# Altium footprint library Connor Winfield.PcbLib: 1 footprints
Each footprint in its own frame and in the unit in brackets; x right, y up, seen from the top. Pads: shape width x height; smd on the part's side, far side on the other; paste and mask are expansions set on the pad; w line width, h text height; cw(c..) or ccw(c..) is an arc to the next point about the centre after c.
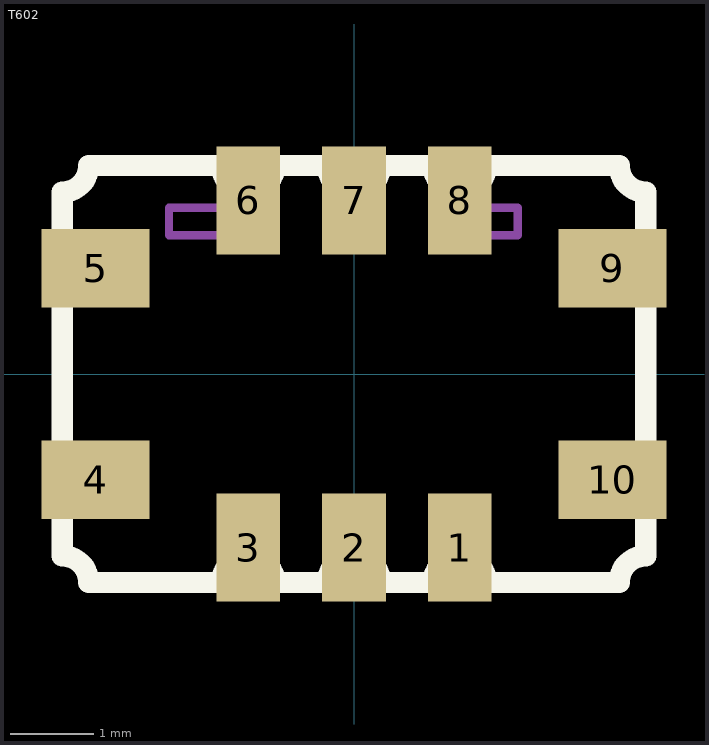
[diagram p0: the footprint, top view; thin cyan lines are the x and y axes]

## T602 [mil]
height 94.49
pads (10):
  rect 30x51 smd: 1(50,-82) 2(0,-82) 3(-50,-82) 6(-50,82) 7(0,82) 8(50,82)
  rect 51x37 smd: 4(-122,-50) 5(-122,50) 9(122,50) 10(122,-50)
Top Overlay:
  lines w10: -137.8,-85.93 cw(c-137.8,-98.43) -125.3,-98.43 -62.5,-98.43 cw(c-50,-98.43) -37.5,-98.43 -12.5,-98.43 cw(c0,-98.43) 12.5,-98.43 37.5,-98.43 cw(c50,-98.43) 62.5,-98.43 125.3,-98.43 cw(c137.8,-98.43) 137.8,-85.93 137.8,-62.5 cw(c137.8,-50) 137.8,-37.5 137.8,37.5 cw(c137.8,50) 137.8,62.5 137.8,85.93 cw(c137.8,98.43) 125.3,98.43 62.5,98.43 cw(c50,98.43) 37.5,98.43 12.5,98.43 cw(c0,98.43) -12.5,98.43 -37.5,98.43 cw(c-50,98.43) -62.5,98.43 -125.3,98.43 cw(c-137.8,98.43) -137.8,85.93 -137.8,62.5 cw(c-137.8,50) -137.8,37.5 -137.8,-37.5 cw(c-137.8,-50) -137.8,-62.5 -137.8,-85.93
Mechanical 13:
  lines w3.94: -87.4,65.51 -87.4,78.5 -62.6,78.5 -62.6,65.51 -87.4,65.51 ; -12.4,65.51 -12.4,78.5 12.4,78.5 12.4,65.51 -12.4,65.51 ; 52.6,65.51 52.6,78.5 77.4,78.5 77.4,65.51 52.6,65.51
3D body: height 52.36, standoff 39.37, extent 58.51,65.51 71.5,78.5
3D body: height 52.36, standoff 39.37, extent 52.6,65.51 58.51,78.5
3D body: height 52.36, standoff 39.37, extent 71.5,65.51 77.4,78.5
3D body: height 52.36, standoff 39.37, extent -6.49,65.51 6.5,78.5
3D body: height 52.36, standoff 39.37, extent -12.4,65.51 -6.49,78.5
3D body: height 52.36, standoff 39.37, extent 6.5,65.51 12.4,78.5
3D body: height 52.36, standoff 39.37, extent -81.49,65.51 -68.5,78.5
3D body: height 52.36, standoff 39.37, extent -87.4,65.51 -81.49,78.5
3D body: height 52.36, standoff 39.37, extent -68.5,65.51 -62.6,78.5
3D body: height 39.37, standoff 0, extent -137.8,-98.43 137.8,98.43
3D body: height 87.01, standoff 39.37, extent -118.1,-80.86 118.12,60.87